# Altium schematic symbol library kmilo17pet-NSC_LDO.SchLib: 2675 symbols (part 16 of 65)
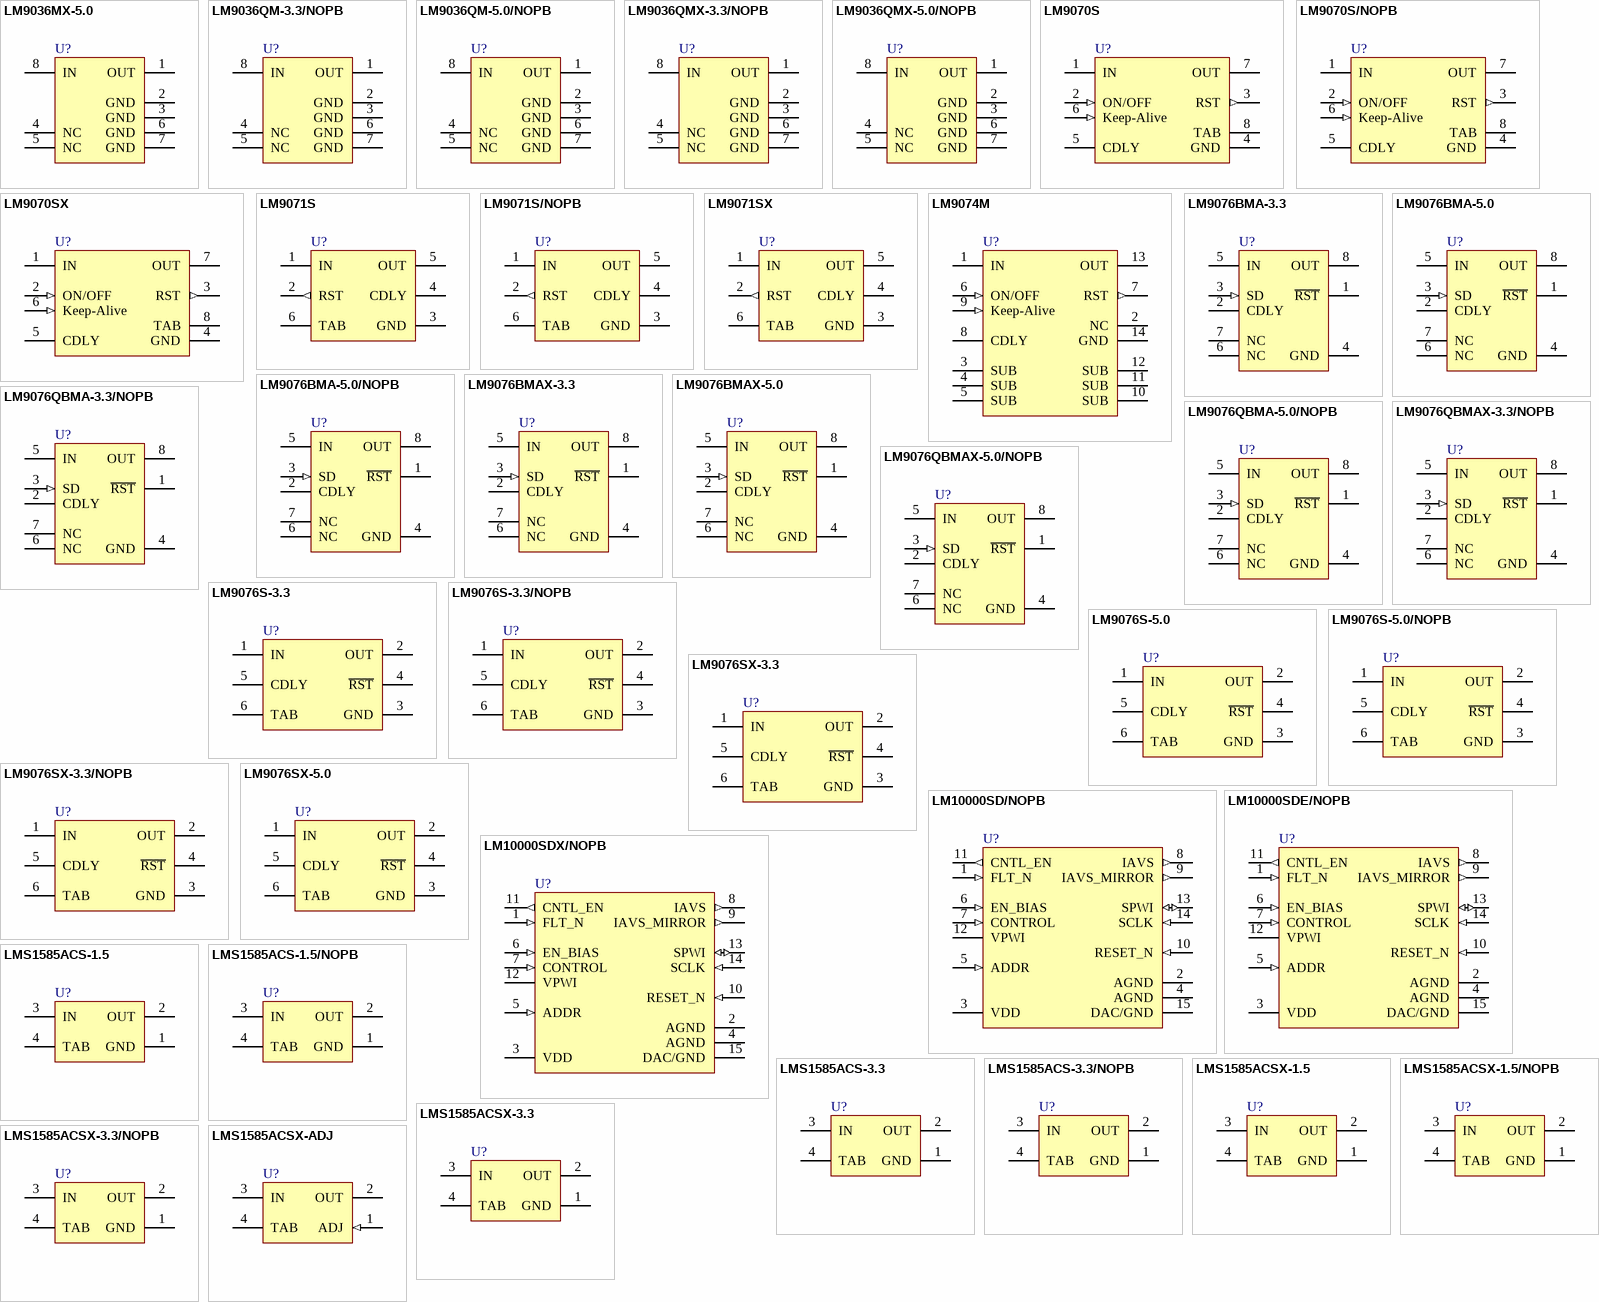
[diagram p82: symbols LM9036MX-5.0 to LMS1585ACSX-ADJ]

## LM9076QBMAX-3.3/NOPB
designator U?
150mA Ultra-Low Quiescent Current LDO Regulator with Delayed Reset Output, 3.3 Vout, Automotive Grade 1, 8-pin Narrow SOIC, 2500 Reel; PartNumber: LM9076QBMAX-3.3/NOPB; Manufacturer: National Semiconductor; PackageTopMarking: NSZXTT*9076B*QMA3.3; PowerWise: N; CompType: LDO IC; High-Reliability: Y; DatasheetVersion: Apr-2011; PackageVersion: revM, May-2009; PackageReference: M08A; PackageDescription: SOIC Narrow, 4.9 x 3.9 x 1.45mm, 8 Lead, 1.27mm Pitch; RoHS: Y; PinCount: 8; Code_JEDEC: MS-012-AA; Code_IPC: SOIC127P600-8; ComponentLink1Description: Manufacturer URL; ComponentLink1URL: http://www.national.com/; ComponentLink2Description: LM9076 Datasheet; ComponentLink2URL: http://www.national.com/ds/LM/LM9076Q.pdf; ComponentLink3Description: LM9076 Web Page; ComponentLink3URL: http://www.national.com/pf/LM/LM9076Q.html; ComponentLink4Description: M08A Package Page; ComponentLink4URL: http://www.national.com/packaging/folders/m08a.html
footprint M08A_N (SOIC, 8-Leads, Body 4.9x3.9mm, Pitch 1.27mm, IPC Medium Density)
footprint M08A_L (SOIC, 8-Leads, Body 4.9x3.9mm, Pitch 1.27mm, IPC High Density)
footprint M08A_M (SOIC, 8-Leads, Body 4.9x3.9mm, Pitch 1.27mm, IPC Low Density)
pins: 1 ~{RST} (oc), 2 CDLY, 3 SD (in), 4 GND (power), 5 IN (power), 6 NC, 7 NC, 8 OUT (power)

## LM9076QBMAX-5.0/NOPB
designator U?
150mA Ultra-Low Quiescent Current LDO Regulator with Delayed Reset Output, 5 Vout, Automotive Grade 1, 8-pin Narrow SOIC, 2500 Reel; PartNumber: LM9076QBMAX-5.0/NOPB; Manufacturer: National Semiconductor; PackageTopMarking: NSZXTT*9076B*QMA5.0; PowerWise: N; CompType: LDO IC; High-Reliability: Y; DatasheetVersion: Apr-2011; PackageVersion: revM, May-2009; PackageReference: M08A; PackageDescription: SOIC Narrow, 4.9 x 3.9 x 1.45mm, 8 Lead, 1.27mm Pitch; RoHS: Y; PinCount: 8; Code_JEDEC: MS-012-AA; Code_IPC: SOIC127P600-8; ComponentLink1Description: Manufacturer URL; ComponentLink1URL: http://www.national.com/; ComponentLink2Description: LM9076 Datasheet; ComponentLink2URL: http://www.national.com/ds/LM/LM9076Q.pdf; ComponentLink3Description: LM9076 Web Page; ComponentLink3URL: http://www.national.com/pf/LM/LM9076Q.html; ComponentLink4Description: M08A Package Page; ComponentLink4URL: http://www.national.com/packaging/folders/m08a.html
footprint M08A_N (SOIC, 8-Leads, Body 4.9x3.9mm, Pitch 1.27mm, IPC Medium Density)
footprint M08A_L (SOIC, 8-Leads, Body 4.9x3.9mm, Pitch 1.27mm, IPC High Density)
footprint M08A_M (SOIC, 8-Leads, Body 4.9x3.9mm, Pitch 1.27mm, IPC Low Density)
pins: 1 ~{RST} (oc), 2 CDLY, 3 SD (in), 4 GND (power), 5 IN (power), 6 NC, 7 NC, 8 OUT (power)

## LM9076S-3.3
designator U?
150mA Ultra-Low Quiescent Current LDO Regulator with Delayed Reset Output, 5-pin TO-263; PartNumber: LM9076S-3.3; Manufacturer: National Semiconductor; PackageTopMarking: NSUZXYTTE#*LM9076S*-3.3; PowerWise: N; CompType: LDO IC; High-Reliability: Y; DatasheetVersion: Nov-2007; PackageVersion: revD, Apr-2005; PackageReference: TS5B; PackageDescription: TO-263, Molded, .400 x .390 x .180in, 5 Lead, .067in Pitch, Surface Mount; RoHS: N; PinCount: 5; Code_JEDEC: MO-169-AB; ComponentLink1Description: Manufacturer URL; ComponentLink1URL: http://www.national.com/; ComponentLink2Description: LM9076 Datasheet; ComponentLink2URL: http://www.national.com/ds/LM/LM9076.pdf; ComponentLink3Description: LM9076 Web Page; ComponentLink3URL: http://www.national.com/pf/LM/LM9076.html; ComponentLink4Description: TS5B Package Page; ComponentLink4URL: http://www.national.com/packaging/folders/ts5b.html
footprint TS5B_N (D2-PAK, 6-Leads, Body 8.6x10.2mm, Pitch 1.7mm, Lead Span 14.1mm, IPC Medium Density)
footprint TS5B_L (D2-PAK, 6-Leads, Body 8.6x10.2mm, Pitch 1.7mm, Lead Span 14.1mm, IPC High Density)
footprint TS5B_M (D2-PAK, 6-Leads, Body 8.6x10.2mm, Pitch 1.7mm, Lead Span 14.1mm, IPC Low Density)
pins: 1 IN (power), 2 OUT (power), 3 GND (power), 4 ~{RST} (oc), 5 CDLY, 6 TAB (power)

## LM9076S-3.3/NOPB
designator U?
150mA Ultra-Low Quiescent Current LDO Regulator with Delayed Reset Output, 5-pin TO-263, Pb-Free; PartNumber: LM9076S-3.3/NOPB; Manufacturer: National Semiconductor; PackageTopMarking: NSUZXYTTE#*LM9076S*-3.3; PowerWise: N; CompType: LDO IC; High-Reliability: Y; DatasheetVersion: Nov-2007; PackageVersion: revD, Apr-2005; PackageReference: TS5B; PackageDescription: TO-263, Molded, .400 x .390 x .180in, 5 Lead, .067in Pitch, Surface Mount; RoHS: Y; PinCount: 5; Code_JEDEC: MO-169-AB; ComponentLink1Description: Manufacturer URL; ComponentLink1URL: http://www.national.com/; ComponentLink2Description: LM9076 Datasheet; ComponentLink2URL: http://www.national.com/ds/LM/LM9076.pdf; ComponentLink3Description: LM9076 Web Page; ComponentLink3URL: http://www.national.com/pf/LM/LM9076.html; ComponentLink4Description: TS5B Package Page; ComponentLink4URL: http://www.national.com/packaging/folders/ts5b.html
footprint TS5B_N (D2-PAK, 6-Leads, Body 8.6x10.2mm, Pitch 1.7mm, Lead Span 14.1mm, IPC Medium Density)
footprint TS5B_L (D2-PAK, 6-Leads, Body 8.6x10.2mm, Pitch 1.7mm, Lead Span 14.1mm, IPC High Density)
footprint TS5B_M (D2-PAK, 6-Leads, Body 8.6x10.2mm, Pitch 1.7mm, Lead Span 14.1mm, IPC Low Density)
pins: 1 IN (power), 2 OUT (power), 3 GND (power), 4 ~{RST} (oc), 5 CDLY, 6 TAB (power)

## LM9076S-5.0
designator U?
150mA Ultra-Low Quiescent Current LDO Regulator with Delayed Reset Output, 5-pin TO-263; PartNumber: LM9076S-5.0; Manufacturer: National Semiconductor; PackageTopMarking: NSUZXYTTE#*LM9076S*-5.0; PowerWise: N; CompType: LDO IC; High-Reliability: Y; DatasheetVersion: Nov-2007; PackageVersion: revD, Apr-2005; PackageReference: TS5B; PackageDescription: TO-263, Molded, .400 x .390 x .180in, 5 Lead, .067in Pitch, Surface Mount; RoHS: N; PinCount: 5; Code_JEDEC: MO-169-AB; ComponentLink1Description: Manufacturer URL; ComponentLink1URL: http://www.national.com/; ComponentLink2Description: LM9076 Datasheet; ComponentLink2URL: http://www.national.com/ds/LM/LM9076.pdf; ComponentLink3Description: LM9076 Web Page; ComponentLink3URL: http://www.national.com/pf/LM/LM9076.html; ComponentLink4Description: TS5B Package Page; ComponentLink4URL: http://www.national.com/packaging/folders/ts5b.html
footprint TS5B_N (D2-PAK, 6-Leads, Body 8.6x10.2mm, Pitch 1.7mm, Lead Span 14.1mm, IPC Medium Density)
footprint TS5B_L (D2-PAK, 6-Leads, Body 8.6x10.2mm, Pitch 1.7mm, Lead Span 14.1mm, IPC High Density)
footprint TS5B_M (D2-PAK, 6-Leads, Body 8.6x10.2mm, Pitch 1.7mm, Lead Span 14.1mm, IPC Low Density)
pins: 1 IN (power), 2 OUT (power), 3 GND (power), 4 ~{RST} (oc), 5 CDLY, 6 TAB (power)

## LM9076S-5.0/NOPB
designator U?
150mA Ultra-Low Quiescent Current LDO Regulator with Delayed Reset Output, 5-pin TO-263, Pb-Free; PartNumber: LM9076S-5.0/NOPB; Manufacturer: National Semiconductor; PackageTopMarking: NSUZXYTTE#*LM9076S*-5.0; PowerWise: N; CompType: LDO IC; High-Reliability: Y; DatasheetVersion: Nov-2007; PackageVersion: revD, Apr-2005; PackageReference: TS5B; PackageDescription: TO-263, Molded, .400 x .390 x .180in, 5 Lead, .067in Pitch, Surface Mount; RoHS: Y; PinCount: 5; Code_JEDEC: MO-169-AB; ComponentLink1Description: Manufacturer URL; ComponentLink1URL: http://www.national.com/; ComponentLink2Description: LM9076 Datasheet; ComponentLink2URL: http://www.national.com/ds/LM/LM9076.pdf; ComponentLink3Description: LM9076 Web Page; ComponentLink3URL: http://www.national.com/pf/LM/LM9076.html; ComponentLink4Description: TS5B Package Page; ComponentLink4URL: http://www.national.com/packaging/folders/ts5b.html
footprint TS5B_N (D2-PAK, 6-Leads, Body 8.6x10.2mm, Pitch 1.7mm, Lead Span 14.1mm, IPC Medium Density)
footprint TS5B_L (D2-PAK, 6-Leads, Body 8.6x10.2mm, Pitch 1.7mm, Lead Span 14.1mm, IPC High Density)
footprint TS5B_M (D2-PAK, 6-Leads, Body 8.6x10.2mm, Pitch 1.7mm, Lead Span 14.1mm, IPC Low Density)
pins: 1 IN (power), 2 OUT (power), 3 GND (power), 4 ~{RST} (oc), 5 CDLY, 6 TAB (power)

## LM9076SX-3.3
designator U?
150mA Ultra-Low Quiescent Current LDO Regulator with Delayed Reset Output, 5-pin TO-263; PartNumber: LM9076SX-3.3; Manufacturer: National Semiconductor; PackageTopMarking: NSUZXYTTE#*LM9076S*-3.3; PowerWise: N; CompType: LDO IC; High-Reliability: Y; DatasheetVersion: Nov-2007; PackageVersion: revD, Apr-2005; PackageReference: TS5B; PackageDescription: TO-263, Molded, .400 x .390 x .180in, 5 Lead, .067in Pitch, Surface Mount; RoHS: N; PinCount: 5; Code_JEDEC: MO-169-AB; ComponentLink1Description: Manufacturer URL; ComponentLink1URL: http://www.national.com/; ComponentLink2Description: LM9076 Datasheet; ComponentLink2URL: http://www.national.com/ds/LM/LM9076.pdf; ComponentLink3Description: LM9076 Web Page; ComponentLink3URL: http://www.national.com/pf/LM/LM9076.html; ComponentLink4Description: TS5B Package Page; ComponentLink4URL: http://www.national.com/packaging/folders/ts5b.html
footprint TS5B_N (D2-PAK, 6-Leads, Body 8.6x10.2mm, Pitch 1.7mm, Lead Span 14.1mm, IPC Medium Density)
footprint TS5B_L (D2-PAK, 6-Leads, Body 8.6x10.2mm, Pitch 1.7mm, Lead Span 14.1mm, IPC High Density)
footprint TS5B_M (D2-PAK, 6-Leads, Body 8.6x10.2mm, Pitch 1.7mm, Lead Span 14.1mm, IPC Low Density)
pins: 1 IN (power), 2 OUT (power), 3 GND (power), 4 ~{RST} (oc), 5 CDLY, 6 TAB (power)

## LM9076SX-3.3/NOPB
designator U?
150mA Ultra-Low Quiescent Current LDO Regulator with Delayed Reset Output, 5-pin TO-263, Pb-Free; PartNumber: LM9076SX-3.3/NOPB; Manufacturer: National Semiconductor; PackageTopMarking: NSUZXYTTE#*LM9076S*-3.3; PowerWise: N; CompType: LDO IC; High-Reliability: Y; DatasheetVersion: Nov-2007; PackageVersion: revD, Apr-2005; PackageReference: TS5B; PackageDescription: TO-263, Molded, .400 x .390 x .180in, 5 Lead, .067in Pitch, Surface Mount; RoHS: Y; PinCount: 5; Code_JEDEC: MO-169-AB; ComponentLink1Description: Manufacturer URL; ComponentLink1URL: http://www.national.com/; ComponentLink2Description: LM9076 Datasheet; ComponentLink2URL: http://www.national.com/ds/LM/LM9076.pdf; ComponentLink3Description: LM9076 Web Page; ComponentLink3URL: http://www.national.com/pf/LM/LM9076.html; ComponentLink4Description: TS5B Package Page; ComponentLink4URL: http://www.national.com/packaging/folders/ts5b.html
footprint TS5B_N (D2-PAK, 6-Leads, Body 8.6x10.2mm, Pitch 1.7mm, Lead Span 14.1mm, IPC Medium Density)
footprint TS5B_L (D2-PAK, 6-Leads, Body 8.6x10.2mm, Pitch 1.7mm, Lead Span 14.1mm, IPC High Density)
footprint TS5B_M (D2-PAK, 6-Leads, Body 8.6x10.2mm, Pitch 1.7mm, Lead Span 14.1mm, IPC Low Density)
pins: 1 IN (power), 2 OUT (power), 3 GND (power), 4 ~{RST} (oc), 5 CDLY, 6 TAB (power)

## LM9076SX-5.0
designator U?
150mA Ultra-Low Quiescent Current LDO Regulator with Delayed Reset Output, 5-pin TO-263; PartNumber: LM9076SX-5.0; Manufacturer: National Semiconductor; PackageTopMarking: NSUZXYTTE#*LM9076S*-5.0; PowerWise: N; CompType: LDO IC; High-Reliability: Y; DatasheetVersion: Nov-2007; PackageVersion: revD, Apr-2005; PackageReference: TS5B; PackageDescription: TO-263, Molded, .400 x .390 x .180in, 5 Lead, .067in Pitch, Surface Mount; RoHS: N; PinCount: 5; Code_JEDEC: MO-169-AB; ComponentLink1Description: Manufacturer URL; ComponentLink1URL: http://www.national.com/; ComponentLink2Description: LM9076 Datasheet; ComponentLink2URL: http://www.national.com/ds/LM/LM9076.pdf; ComponentLink3Description: LM9076 Web Page; ComponentLink3URL: http://www.national.com/pf/LM/LM9076.html; ComponentLink4Description: TS5B Package Page; ComponentLink4URL: http://www.national.com/packaging/folders/ts5b.html
footprint TS5B_N (D2-PAK, 6-Leads, Body 8.6x10.2mm, Pitch 1.7mm, Lead Span 14.1mm, IPC Medium Density)
footprint TS5B_L (D2-PAK, 6-Leads, Body 8.6x10.2mm, Pitch 1.7mm, Lead Span 14.1mm, IPC High Density)
footprint TS5B_M (D2-PAK, 6-Leads, Body 8.6x10.2mm, Pitch 1.7mm, Lead Span 14.1mm, IPC Low Density)
pins: 1 IN (power), 2 OUT (power), 3 GND (power), 4 ~{RST} (oc), 5 CDLY, 6 TAB (power)

## LM10000SD/NOPB
designator U?
AVS System Controller, 14 pin LLP; PartNumber: LM10000SD/NOPB; Manufacturer: National Semiconductor; PackageTopMarking: ZXYTTE#*10000SD; PowerWise: N; CompType: LDO IC; High-Reliability: Y; DatasheetVersion: Jul-2010; PackageVersion: revA, Jun-2003; PackageReference: SDA14A; PackageDescription: LLP, Plastic, Dual, 4 x 3 x 0.8mm Body, 14 Lead, 0.5mm Pitch, No Pullback; RoHS: Y; PinCount: 14; ComponentLink1Description: Manufacturer URL; ComponentLink1URL: http://www.national.com/; ComponentLink2Description: LM10000 Datasheet; ComponentLink2URL: http://www.national.com/ds/LM/LM10000.pdf; ComponentLink3Description: LM10000 Web Page; ComponentLink3URL: http://www.national.com/pf/LM/LM10000.html; ComponentLink4Description: SDA14A Package Page; ComponentLink4URL: http://www.national.com/packaging/folders/sda14a.html
footprint SDA14A (SON, 14-Leads, Body 4x3mm, Pitch 0.5mm, NSC Recommended)
pins: 1 FLT_N (in), 2 AGND (power), 3 VDD (power), 4 AGND (power), 5 ADDR (in), 6 EN_BIAS (in), 7 CONTROL (in), 8 IAVS (out), 9 IAVS_MIRROR (out), 10 RESET_N (in), 11 CNTL_EN (out), 12 VPWI (power), 13 SPWI (io), 14 SCLK (in), 15 DAC/GND (power)

## LM10000SDE/NOPB
designator U?
AVS System Controller, 14 pin LLP; PartNumber: LM10000SDE/NOPB; Manufacturer: National Semiconductor; PackageTopMarking: ZXYTTE#*10000SD; PowerWise: N; CompType: LDO IC; High-Reliability: Y; DatasheetVersion: Jul-2010; PackageVersion: revA, Jun-2003; PackageReference: SDA14A; PackageDescription: LLP, Plastic, Dual, 4 x 3 x 0.8mm Body, 14 Lead, 0.5mm Pitch, No Pullback; RoHS: Y; PinCount: 14; ComponentLink1Description: Manufacturer URL; ComponentLink1URL: http://www.national.com/; ComponentLink2Description: LM10000 Datasheet; ComponentLink2URL: http://www.national.com/ds/LM/LM10000.pdf; ComponentLink3Description: LM10000 Web Page; ComponentLink3URL: http://www.national.com/pf/LM/LM10000.html; ComponentLink4Description: SDA14A Package Page; ComponentLink4URL: http://www.national.com/packaging/folders/sda14a.html
footprint SDA14A (SON, 14-Leads, Body 4x3mm, Pitch 0.5mm, NSC Recommended)
pins: 1 FLT_N (in), 2 AGND (power), 3 VDD (power), 4 AGND (power), 5 ADDR (in), 6 EN_BIAS (in), 7 CONTROL (in), 8 IAVS (out), 9 IAVS_MIRROR (out), 10 RESET_N (in), 11 CNTL_EN (out), 12 VPWI (power), 13 SPWI (io), 14 SCLK (in), 15 DAC/GND (power)

## LM10000SDX/NOPB
designator U?
AVS System Controller, 14 pin LLP; PartNumber: LM10000SDX/NOPB; Manufacturer: National Semiconductor; PackageTopMarking: ZXYTTE#*10000SD; PowerWise: N; CompType: LDO IC; High-Reliability: Y; DatasheetVersion: Jul-2010; PackageVersion: revA, Jun-2003; PackageReference: SDA14A; PackageDescription: LLP, Plastic, Dual, 4 x 3 x 0.8mm Body, 14 Lead, 0.5mm Pitch, No Pullback; RoHS: Y; PinCount: 14; ComponentLink1Description: Manufacturer URL; ComponentLink1URL: http://www.national.com/; ComponentLink2Description: LM10000 Datasheet; ComponentLink2URL: http://www.national.com/ds/LM/LM10000.pdf; ComponentLink3Description: LM10000 Web Page; ComponentLink3URL: http://www.national.com/pf/LM/LM10000.html; ComponentLink4Description: SDA14A Package Page; ComponentLink4URL: http://www.national.com/packaging/folders/sda14a.html
footprint SDA14A (SON, 14-Leads, Body 4x3mm, Pitch 0.5mm, NSC Recommended)
pins: 1 FLT_N (in), 2 AGND (power), 3 VDD (power), 4 AGND (power), 5 ADDR (in), 6 EN_BIAS (in), 7 CONTROL (in), 8 IAVS (out), 9 IAVS_MIRROR (out), 10 RESET_N (in), 11 CNTL_EN (out), 12 VPWI (power), 13 SPWI (io), 14 SCLK (in), 15 DAC/GND (power)

## LMS1585ACS-1.5
designator U?
5A Low Dropout Fast Response Regulators, 3-pin TO-263; PartNumber: LMS1585ACS-1.5; Manufacturer: National Semiconductor; PackageTopMarking: NSUZXYTTE#*LMS1585*ACS-1.5; PowerWise: N; CompType: LDO IC; High-Reliability: Y; DatasheetVersion: Jun-2005; PackageVersion: revF, Apr-2005; PackageReference: TS3B; PackageDescription: TO-263, Molded, .400 x .390 x .180in, 3 Lead, .1in Pitch, Surface Mount; RoHS: N; PinCount: 3; Code_JEDEC: MO-169-AA; ComponentLink1Description: Manufacturer URL; ComponentLink1URL: http://www.national.com/; ComponentLink2Description: LMS1585A Datasheet; ComponentLink2URL: http://www.national.com/ds/LM/LMS1585A.pdf; ComponentLink3Description: LMS1585A Web Page; ComponentLink3URL: http://www.national.com/pf/LM/LMS1585A.html; ComponentLink4Description: TS3B Package Page; ComponentLink4URL: http://www.national.com/packaging/folders/ts3b.html
footprint TS3B_N (D2-PAK, 4-Leads, Body 8.6x10.2mm, Pitch 2.54mm, Lead Span 14.2mm, IPC Medium Density)
footprint TS3B_L (D2-PAK, 4-Leads, Body 8.6x10.2mm, Pitch 2.54mm, Lead Span 14.2mm, IPC High Density)
footprint TS3B_M (D2-PAK, 4-Leads, Body 8.6x10.2mm, Pitch 2.54mm, Lead Span 14.2mm, IPC Low Density)
pins: 1 GND (power), 2 OUT (power), 3 IN (power), 4 TAB (power)

## LMS1585ACS-1.5/NOPB
designator U?
5A Low Dropout Fast Response Regulators, 3-pin TO-263, Pb-Free; PartNumber: LMS1585ACS-1.5/NOPB; Manufacturer: National Semiconductor; PackageTopMarking: NSUZXYTTE#*LMS1585*ACS-1.5; PowerWise: N; CompType: LDO IC; High-Reliability: Y; DatasheetVersion: Jun-2005; PackageVersion: revF, Apr-2005; PackageReference: TS3B; PackageDescription: TO-263, Molded, .400 x .390 x .180in, 3 Lead, .1in Pitch, Surface Mount; RoHS: Y; PinCount: 3; Code_JEDEC: MO-169-AA; ComponentLink1Description: Manufacturer URL; ComponentLink1URL: http://www.national.com/; ComponentLink2Description: LMS1585A Datasheet; ComponentLink2URL: http://www.national.com/ds/LM/LMS1585A.pdf; ComponentLink3Description: LMS1585A Web Page; ComponentLink3URL: http://www.national.com/pf/LM/LMS1585A.html; ComponentLink4Description: TS3B Package Page; ComponentLink4URL: http://www.national.com/packaging/folders/ts3b.html
footprint TS3B_N (D2-PAK, 4-Leads, Body 8.6x10.2mm, Pitch 2.54mm, Lead Span 14.2mm, IPC Medium Density)
footprint TS3B_L (D2-PAK, 4-Leads, Body 8.6x10.2mm, Pitch 2.54mm, Lead Span 14.2mm, IPC High Density)
footprint TS3B_M (D2-PAK, 4-Leads, Body 8.6x10.2mm, Pitch 2.54mm, Lead Span 14.2mm, IPC Low Density)
pins: 1 GND (power), 2 OUT (power), 3 IN (power), 4 TAB (power)

## LMS1585ACS-3.3
designator U?
5A Low Dropout Fast Response Regulators, 3-pin TO-263; PartNumber: LMS1585ACS-3.3; Manufacturer: National Semiconductor; PackageTopMarking: NSUZXYTTE#*LMS1585*ACS-3.3; PowerWise: N; CompType: LDO IC; High-Reliability: Y; DatasheetVersion: Jun-2005; PackageVersion: revF, Apr-2005; PackageReference: TS3B; PackageDescription: TO-263, Molded, .400 x .390 x .180in, 3 Lead, .1in Pitch, Surface Mount; RoHS: N; PinCount: 3; Code_JEDEC: MO-169-AA; ComponentLink1Description: Manufacturer URL; ComponentLink1URL: http://www.national.com/; ComponentLink2Description: LMS1585A Datasheet; ComponentLink2URL: http://www.national.com/ds/LM/LMS1585A.pdf; ComponentLink3Description: LMS1585A Web Page; ComponentLink3URL: http://www.national.com/pf/LM/LMS1585A.html; ComponentLink4Description: TS3B Package Page; ComponentLink4URL: http://www.national.com/packaging/folders/ts3b.html
footprint TS3B_N (D2-PAK, 4-Leads, Body 8.6x10.2mm, Pitch 2.54mm, Lead Span 14.2mm, IPC Medium Density)
footprint TS3B_L (D2-PAK, 4-Leads, Body 8.6x10.2mm, Pitch 2.54mm, Lead Span 14.2mm, IPC High Density)
footprint TS3B_M (D2-PAK, 4-Leads, Body 8.6x10.2mm, Pitch 2.54mm, Lead Span 14.2mm, IPC Low Density)
pins: 1 GND (power), 2 OUT (power), 3 IN (power), 4 TAB (power)

## LMS1585ACS-3.3/NOPB
designator U?
5A Low Dropout Fast Response Regulators, 3-pin TO-263, Pb-Free; PartNumber: LMS1585ACS-3.3/NOPB; Manufacturer: National Semiconductor; PackageTopMarking: NSUZXYTTE#*LMS1585*ACS-3.3; PowerWise: N; CompType: LDO IC; High-Reliability: Y; DatasheetVersion: Jun-2005; PackageVersion: revF, Apr-2005; PackageReference: TS3B; PackageDescription: TO-263, Molded, .400 x .390 x .180in, 3 Lead, .1in Pitch, Surface Mount; RoHS: Y; PinCount: 3; Code_JEDEC: MO-169-AA; ComponentLink1Description: Manufacturer URL; ComponentLink1URL: http://www.national.com/; ComponentLink2Description: LMS1585A Datasheet; ComponentLink2URL: http://www.national.com/ds/LM/LMS1585A.pdf; ComponentLink3Description: LMS1585A Web Page; ComponentLink3URL: http://www.national.com/pf/LM/LMS1585A.html; ComponentLink4Description: TS3B Package Page; ComponentLink4URL: http://www.national.com/packaging/folders/ts3b.html
footprint TS3B_N (D2-PAK, 4-Leads, Body 8.6x10.2mm, Pitch 2.54mm, Lead Span 14.2mm, IPC Medium Density)
footprint TS3B_L (D2-PAK, 4-Leads, Body 8.6x10.2mm, Pitch 2.54mm, Lead Span 14.2mm, IPC High Density)
footprint TS3B_M (D2-PAK, 4-Leads, Body 8.6x10.2mm, Pitch 2.54mm, Lead Span 14.2mm, IPC Low Density)
pins: 1 GND (power), 2 OUT (power), 3 IN (power), 4 TAB (power)

## LMS1585ACSX-1.5
designator U?
5A Low Dropout Fast Response Regulators, 3-pin TO-263; PartNumber: LMS1585ACSX-1.5; Manufacturer: National Semiconductor; PackageTopMarking: NSUZXYTTE#*LMS1585*ACS-1.5; PowerWise: N; CompType: LDO IC; High-Reliability: Y; DatasheetVersion: Jun-2005; PackageVersion: revF, Apr-2005; PackageReference: TS3B; PackageDescription: TO-263, Molded, .400 x .390 x .180in, 3 Lead, .1in Pitch, Surface Mount; RoHS: N; PinCount: 3; Code_JEDEC: MO-169-AA; ComponentLink1Description: Manufacturer URL; ComponentLink1URL: http://www.national.com/; ComponentLink2Description: LMS1585A Datasheet; ComponentLink2URL: http://www.national.com/ds/LM/LMS1585A.pdf; ComponentLink3Description: LMS1585A Web Page; ComponentLink3URL: http://www.national.com/pf/LM/LMS1585A.html; ComponentLink4Description: TS3B Package Page; ComponentLink4URL: http://www.national.com/packaging/folders/ts3b.html
footprint TS3B_N (D2-PAK, 4-Leads, Body 8.6x10.2mm, Pitch 2.54mm, Lead Span 14.2mm, IPC Medium Density)
footprint TS3B_L (D2-PAK, 4-Leads, Body 8.6x10.2mm, Pitch 2.54mm, Lead Span 14.2mm, IPC High Density)
footprint TS3B_M (D2-PAK, 4-Leads, Body 8.6x10.2mm, Pitch 2.54mm, Lead Span 14.2mm, IPC Low Density)
pins: 1 GND (power), 2 OUT (power), 3 IN (power), 4 TAB (power)

## LMS1585ACSX-1.5/NOPB
designator U?
5A Low Dropout Fast Response Regulators, 3-pin TO-263, Pb-Free; PartNumber: LMS1585ACSX-1.5/NOPB; Manufacturer: National Semiconductor; PackageTopMarking: NSUZXYTTE#*LMS1585*ACS-1.5; PowerWise: N; CompType: LDO IC; High-Reliability: Y; DatasheetVersion: Jun-2005; PackageVersion: revF, Apr-2005; PackageReference: TS3B; PackageDescription: TO-263, Molded, .400 x .390 x .180in, 3 Lead, .1in Pitch, Surface Mount; RoHS: Y; PinCount: 3; Code_JEDEC: MO-169-AA; ComponentLink1Description: Manufacturer URL; ComponentLink1URL: http://www.national.com/; ComponentLink2Description: LMS1585A Datasheet; ComponentLink2URL: http://www.national.com/ds/LM/LMS1585A.pdf; ComponentLink3Description: LMS1585A Web Page; ComponentLink3URL: http://www.national.com/pf/LM/LMS1585A.html; ComponentLink4Description: TS3B Package Page; ComponentLink4URL: http://www.national.com/packaging/folders/ts3b.html
footprint TS3B_N (D2-PAK, 4-Leads, Body 8.6x10.2mm, Pitch 2.54mm, Lead Span 14.2mm, IPC Medium Density)
footprint TS3B_L (D2-PAK, 4-Leads, Body 8.6x10.2mm, Pitch 2.54mm, Lead Span 14.2mm, IPC High Density)
footprint TS3B_M (D2-PAK, 4-Leads, Body 8.6x10.2mm, Pitch 2.54mm, Lead Span 14.2mm, IPC Low Density)
pins: 1 GND (power), 2 OUT (power), 3 IN (power), 4 TAB (power)

## LMS1585ACSX-3.3
designator U?
5A Low Dropout Fast Response Regulators, 3-pin TO-263; PartNumber: LMS1585ACSX-3.3; Manufacturer: National Semiconductor; PackageTopMarking: NSUZXYTTE#*LMS1585*ACS-3.3; PowerWise: N; CompType: LDO IC; High-Reliability: Y; DatasheetVersion: Jun-2005; PackageVersion: revF, Apr-2005; PackageReference: TS3B; PackageDescription: TO-263, Molded, .400 x .390 x .180in, 3 Lead, .1in Pitch, Surface Mount; RoHS: N; PinCount: 3; Code_JEDEC: MO-169-AA; ComponentLink1Description: Manufacturer URL; ComponentLink1URL: http://www.national.com/; ComponentLink2Description: LMS1585A Datasheet; ComponentLink2URL: http://www.national.com/ds/LM/LMS1585A.pdf; ComponentLink3Description: LMS1585A Web Page; ComponentLink3URL: http://www.national.com/pf/LM/LMS1585A.html; ComponentLink4Description: TS3B Package Page; ComponentLink4URL: http://www.national.com/packaging/folders/ts3b.html
footprint TS3B_N (D2-PAK, 4-Leads, Body 8.6x10.2mm, Pitch 2.54mm, Lead Span 14.2mm, IPC Medium Density)
footprint TS3B_L (D2-PAK, 4-Leads, Body 8.6x10.2mm, Pitch 2.54mm, Lead Span 14.2mm, IPC High Density)
footprint TS3B_M (D2-PAK, 4-Leads, Body 8.6x10.2mm, Pitch 2.54mm, Lead Span 14.2mm, IPC Low Density)
pins: 1 GND (power), 2 OUT (power), 3 IN (power), 4 TAB (power)

## LMS1585ACSX-3.3/NOPB
designator U?
5A Low Dropout Fast Response Regulators, 3-pin TO-263, Pb-Free; PartNumber: LMS1585ACSX-3.3/NOPB; Manufacturer: National Semiconductor; PackageTopMarking: NSUZXYTTE#*LMS1585*ACS-3.3; PowerWise: N; CompType: LDO IC; High-Reliability: Y; DatasheetVersion: Jun-2005; PackageVersion: revF, Apr-2005; PackageReference: TS3B; PackageDescription: TO-263, Molded, .400 x .390 x .180in, 3 Lead, .1in Pitch, Surface Mount; RoHS: Y; PinCount: 3; Code_JEDEC: MO-169-AA; ComponentLink1Description: Manufacturer URL; ComponentLink1URL: http://www.national.com/; ComponentLink2Description: LMS1585A Datasheet; ComponentLink2URL: http://www.national.com/ds/LM/LMS1585A.pdf; ComponentLink3Description: LMS1585A Web Page; ComponentLink3URL: http://www.national.com/pf/LM/LMS1585A.html; ComponentLink4Description: TS3B Package Page; ComponentLink4URL: http://www.national.com/packaging/folders/ts3b.html
footprint TS3B_N (D2-PAK, 4-Leads, Body 8.6x10.2mm, Pitch 2.54mm, Lead Span 14.2mm, IPC Medium Density)
footprint TS3B_L (D2-PAK, 4-Leads, Body 8.6x10.2mm, Pitch 2.54mm, Lead Span 14.2mm, IPC High Density)
footprint TS3B_M (D2-PAK, 4-Leads, Body 8.6x10.2mm, Pitch 2.54mm, Lead Span 14.2mm, IPC Low Density)
pins: 1 GND (power), 2 OUT (power), 3 IN (power), 4 TAB (power)

## LMS1585ACSX-ADJ
designator U?
5A Low Dropout Fast Response Regulators, 3-pin TO-263; PartNumber: LMS1585ACSX-ADJ; Manufacturer: National Semiconductor; PackageTopMarking: NSUZXYTTE#*LMS1585*ACS-ADJ; PowerWise: N; CompType: LDO IC; High-Reliability: Y; DatasheetVersion: Jun-2005; PackageVersion: revF, Apr-2005; PackageReference: TS3B; PackageDescription: TO-263, Molded, .400 x .390 x .180in, 3 Lead, .1in Pitch, Surface Mount; RoHS: N; PinCount: 3; Code_JEDEC: MO-169-AA; ComponentLink1Description: Manufacturer URL; ComponentLink1URL: http://www.national.com/; ComponentLink2Description: LMS1585A Datasheet; ComponentLink2URL: http://www.national.com/ds/LM/LMS1585A.pdf; ComponentLink3Description: LMS1585A Web Page; ComponentLink3URL: http://www.national.com/pf/LM/LMS1585A.html; ComponentLink4Description: TS3B Package Page; ComponentLink4URL: http://www.national.com/packaging/folders/ts3b.html
footprint TS3B_N (D2-PAK, 4-Leads, Body 8.6x10.2mm, Pitch 2.54mm, Lead Span 14.2mm, IPC Medium Density)
footprint TS3B_L (D2-PAK, 4-Leads, Body 8.6x10.2mm, Pitch 2.54mm, Lead Span 14.2mm, IPC High Density)
footprint TS3B_M (D2-PAK, 4-Leads, Body 8.6x10.2mm, Pitch 2.54mm, Lead Span 14.2mm, IPC Low Density)
pins: 1 ADJ (in), 2 OUT (power), 3 IN (power), 4 TAB (power)

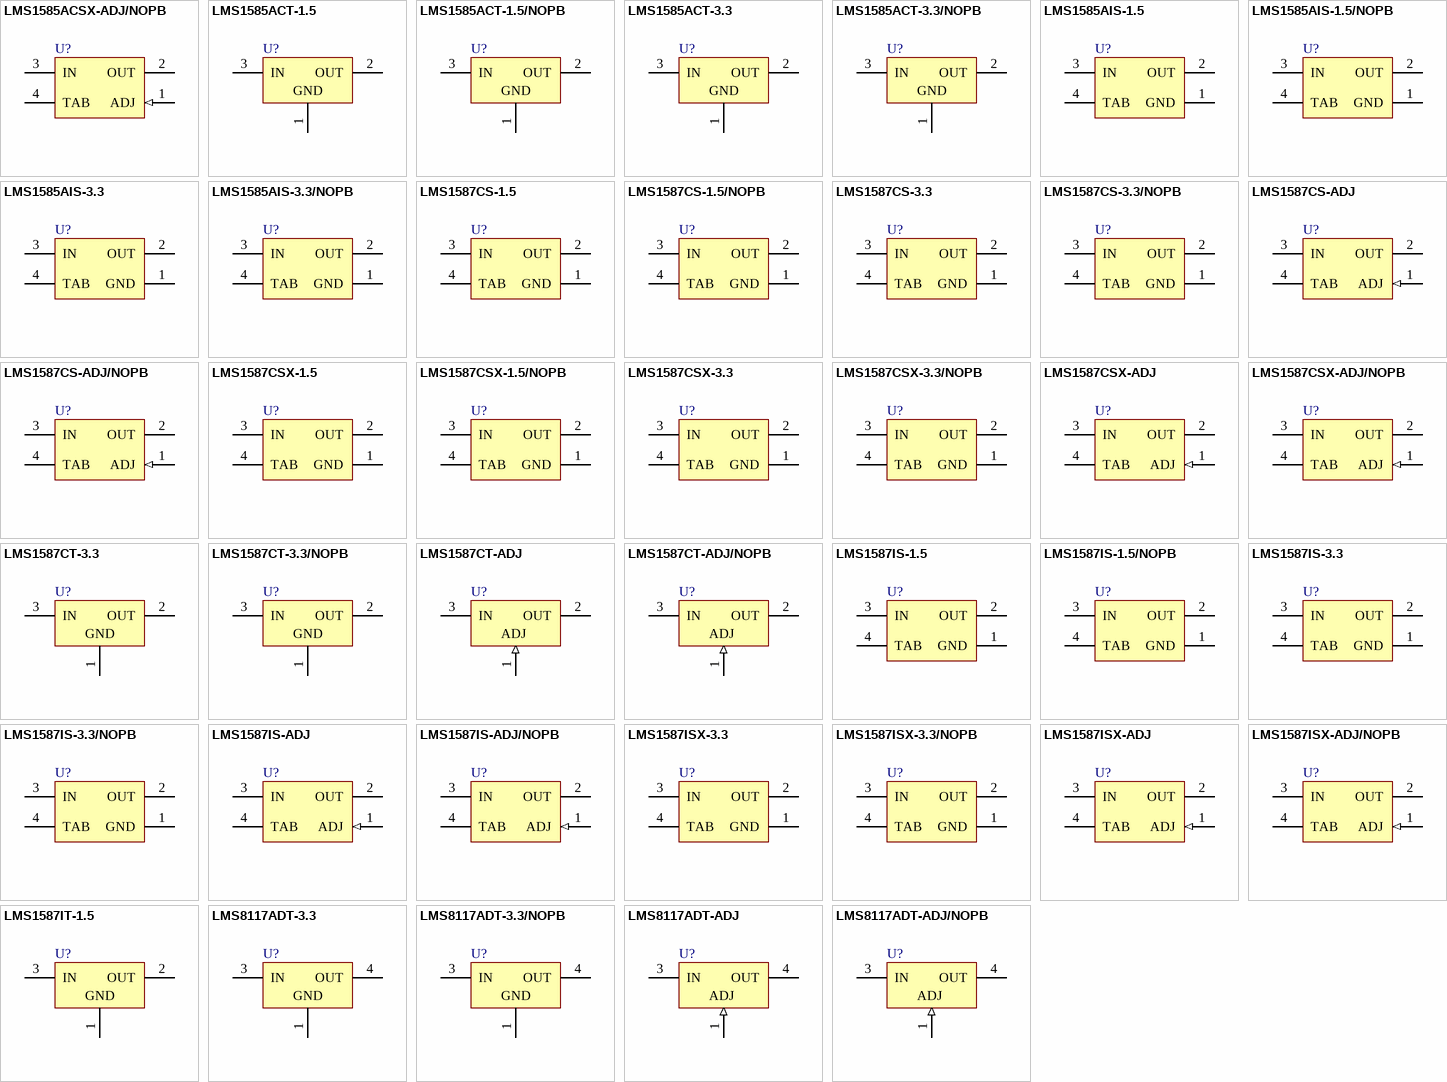
[diagram p17: symbols LMS1585ACSX-ADJ/NOPB to LMS8117ADT-ADJ/NOPB]

## LMS1585ACSX-ADJ/NOPB
designator U?
5A Low Dropout Fast Response Regulators, 3-pin TO-263, Pb-Free; PartNumber: LMS1585ACSX-ADJ/NOPB; Manufacturer: National Semiconductor; PackageTopMarking: NSUZXYTTE#*LMS1585*ACS-ADJ; PowerWise: N; CompType: LDO IC; High-Reliability: Y; DatasheetVersion: Jun-2005; PackageVersion: revF, Apr-2005; PackageReference: TS3B; PackageDescription: TO-263, Molded, .400 x .390 x .180in, 3 Lead, .1in Pitch, Surface Mount; RoHS: Y; PinCount: 3; Code_JEDEC: MO-169-AA; ComponentLink1Description: Manufacturer URL; ComponentLink1URL: http://www.national.com/; ComponentLink2Description: LMS1585A Datasheet; ComponentLink2URL: http://www.national.com/ds/LM/LMS1585A.pdf; ComponentLink3Description: LMS1585A Web Page; ComponentLink3URL: http://www.national.com/pf/LM/LMS1585A.html; ComponentLink4Description: TS3B Package Page; ComponentLink4URL: http://www.national.com/packaging/folders/ts3b.html
footprint TS3B_N (D2-PAK, 4-Leads, Body 8.6x10.2mm, Pitch 2.54mm, Lead Span 14.2mm, IPC Medium Density)
footprint TS3B_L (D2-PAK, 4-Leads, Body 8.6x10.2mm, Pitch 2.54mm, Lead Span 14.2mm, IPC High Density)
footprint TS3B_M (D2-PAK, 4-Leads, Body 8.6x10.2mm, Pitch 2.54mm, Lead Span 14.2mm, IPC Low Density)
pins: 1 ADJ (in), 2 OUT (power), 3 IN (power), 4 TAB (power)

## LMS1585ACT-1.5
designator U?
5A Low Dropout Fast Response Regulators, 3-pin TO-220; PartNumber: LMS1585ACT-1.5; Manufacturer: National Semiconductor; PackageTopMarking: NSUZXYTTE#*LMS1585ACT*1.5; PowerWise: N; CompType: LDO IC; High-Reliability: Y; DatasheetVersion: Jun-2005; PackageVersion: revL, Jan-1992; PackageReference: T03B; PackageDescription: TO-220, Molded, 3 Lead, Straight; RoHS: N; PinCount: 3; ComponentLink1Description: Manufacturer URL; ComponentLink1URL: http://www.national.com/; ComponentLink2Description: LMS1585A Datasheet; ComponentLink2URL: http://www.national.com/ds/LM/LMS1585A.pdf; ComponentLink3Description: LMS1585A Web Page; ComponentLink3URL: http://www.national.com/pf/LM/LMS1585A.html; ComponentLink4Description: T03B Package Page; ComponentLink4URL: http://www.national.com/packaging/folders/t03b.html
footprint T03B (TO, Thru-Hole, Vertical, Heatsink Mounted; 3 In-Line Leads; Pitch 2.54 mm)
pins: 1 GND (power), 2 OUT (power), 3 IN (power)

## LMS1585ACT-1.5/NOPB
designator U?
5A Low Dropout Fast Response Regulators, 3-pin TO-220, Pb-Free; PartNumber: LMS1585ACT-1.5/NOPB; Manufacturer: National Semiconductor; PackageTopMarking: NSUZXYTTE#*LMS1585ACT*1.5; PowerWise: N; CompType: LDO IC; High-Reliability: Y; DatasheetVersion: Jun-2005; PackageVersion: revL, Jan-1992; PackageReference: T03B; PackageDescription: TO-220, Molded, 3 Lead, Straight; RoHS: Y; PinCount: 3; ComponentLink1Description: Manufacturer URL; ComponentLink1URL: http://www.national.com/; ComponentLink2Description: LMS1585A Datasheet; ComponentLink2URL: http://www.national.com/ds/LM/LMS1585A.pdf; ComponentLink3Description: LMS1585A Web Page; ComponentLink3URL: http://www.national.com/pf/LM/LMS1585A.html; ComponentLink4Description: T03B Package Page; ComponentLink4URL: http://www.national.com/packaging/folders/t03b.html
footprint T03B (TO, Thru-Hole, Vertical, Heatsink Mounted; 3 In-Line Leads; Pitch 2.54 mm)
pins: 1 GND (power), 2 OUT (power), 3 IN (power)

## LMS1585ACT-3.3
designator U?
5A Low Dropout Fast Response Regulators, 3-pin TO-220; PartNumber: LMS1585ACT-3.3; Manufacturer: National Semiconductor; PackageTopMarking: NSUZXYTTE#*LMS1585*ACT-3.3; PowerWise: N; CompType: LDO IC; High-Reliability: Y; DatasheetVersion: Jun-2005; PackageVersion: revL, Jan-1992; PackageReference: T03B; PackageDescription: TO-220, Molded, 3 Lead, Straight; RoHS: N; PinCount: 3; ComponentLink1Description: Manufacturer URL; ComponentLink1URL: http://www.national.com/; ComponentLink2Description: LMS1585A Datasheet; ComponentLink2URL: http://www.national.com/ds/LM/LMS1585A.pdf; ComponentLink3Description: LMS1585A Web Page; ComponentLink3URL: http://www.national.com/pf/LM/LMS1585A.html; ComponentLink4Description: T03B Package Page; ComponentLink4URL: http://www.national.com/packaging/folders/t03b.html
footprint T03B (TO, Thru-Hole, Vertical, Heatsink Mounted; 3 In-Line Leads; Pitch 2.54 mm)
pins: 1 GND (power), 2 OUT (power), 3 IN (power)

## LMS1585ACT-3.3/NOPB
designator U?
5A Low Dropout Fast Response Regulators, 3-pin TO-220, Pb-Free; PartNumber: LMS1585ACT-3.3/NOPB; Manufacturer: National Semiconductor; PackageTopMarking: NSUZXYTTE#*LMS1585*ACT-3.3; PowerWise: N; CompType: LDO IC; High-Reliability: Y; DatasheetVersion: Jun-2005; PackageVersion: revL, Jan-1992; PackageReference: T03B; PackageDescription: TO-220, Molded, 3 Lead, Straight; RoHS: Y; PinCount: 3; ComponentLink1Description: Manufacturer URL; ComponentLink1URL: http://www.national.com/; ComponentLink2Description: LMS1585A Datasheet; ComponentLink2URL: http://www.national.com/ds/LM/LMS1585A.pdf; ComponentLink3Description: LMS1585A Web Page; ComponentLink3URL: http://www.national.com/pf/LM/LMS1585A.html; ComponentLink4Description: T03B Package Page; ComponentLink4URL: http://www.national.com/packaging/folders/t03b.html
footprint T03B (TO, Thru-Hole, Vertical, Heatsink Mounted; 3 In-Line Leads; Pitch 2.54 mm)
pins: 1 GND (power), 2 OUT (power), 3 IN (power)

## LMS1585AIS-1.5
designator U?
5A Low Dropout Fast Response Regulators, 3-pin TO-263; PartNumber: LMS1585AIS-1.5; Manufacturer: National Semiconductor; PackageTopMarking: NSUZXYTTE#*LMS1585*AIS-1.5; PowerWise: N; CompType: LDO IC; High-Reliability: Y; DatasheetVersion: Jun-2005; PackageVersion: revF, Apr-2005; PackageReference: TS3B; PackageDescription: TO-263, Molded, .400 x .390 x .180in, 3 Lead, .1in Pitch, Surface Mount; RoHS: N; PinCount: 3; Code_JEDEC: MO-169-AA; ComponentLink1Description: Manufacturer URL; ComponentLink1URL: http://www.national.com/; ComponentLink2Description: LMS1585A Datasheet; ComponentLink2URL: http://www.national.com/ds/LM/LMS1585A.pdf; ComponentLink3Description: LMS1585A Web Page; ComponentLink3URL: http://www.national.com/pf/LM/LMS1585A.html; ComponentLink4Description: TS3B Package Page; ComponentLink4URL: http://www.national.com/packaging/folders/ts3b.html
footprint TS3B_N (D2-PAK, 4-Leads, Body 8.6x10.2mm, Pitch 2.54mm, Lead Span 14.2mm, IPC Medium Density)
footprint TS3B_L (D2-PAK, 4-Leads, Body 8.6x10.2mm, Pitch 2.54mm, Lead Span 14.2mm, IPC High Density)
footprint TS3B_M (D2-PAK, 4-Leads, Body 8.6x10.2mm, Pitch 2.54mm, Lead Span 14.2mm, IPC Low Density)
pins: 1 GND (power), 2 OUT (power), 3 IN (power), 4 TAB (power)

## LMS1585AIS-1.5/NOPB
designator U?
5A Low Dropout Fast Response Regulators, 3-pin TO-263, Pb-Free; PartNumber: LMS1585AIS-1.5/NOPB; Manufacturer: National Semiconductor; PackageTopMarking: NSUZXYTTE#*LMS1585*AIS-1.5; PowerWise: N; CompType: LDO IC; High-Reliability: Y; DatasheetVersion: Jun-2005; PackageVersion: revF, Apr-2005; PackageReference: TS3B; PackageDescription: TO-263, Molded, .400 x .390 x .180in, 3 Lead, .1in Pitch, Surface Mount; RoHS: Y; PinCount: 3; Code_JEDEC: MO-169-AA; ComponentLink1Description: Manufacturer URL; ComponentLink1URL: http://www.national.com/; ComponentLink2Description: LMS1585A Datasheet; ComponentLink2URL: http://www.national.com/ds/LM/LMS1585A.pdf; ComponentLink3Description: LMS1585A Web Page; ComponentLink3URL: http://www.national.com/pf/LM/LMS1585A.html; ComponentLink4Description: TS3B Package Page; ComponentLink4URL: http://www.national.com/packaging/folders/ts3b.html
footprint TS3B_N (D2-PAK, 4-Leads, Body 8.6x10.2mm, Pitch 2.54mm, Lead Span 14.2mm, IPC Medium Density)
footprint TS3B_L (D2-PAK, 4-Leads, Body 8.6x10.2mm, Pitch 2.54mm, Lead Span 14.2mm, IPC High Density)
footprint TS3B_M (D2-PAK, 4-Leads, Body 8.6x10.2mm, Pitch 2.54mm, Lead Span 14.2mm, IPC Low Density)
pins: 1 GND (power), 2 OUT (power), 3 IN (power), 4 TAB (power)

## LMS1585AIS-3.3
designator U?
5A Low Dropout Fast Response Regulators, 3-pin TO-263; PartNumber: LMS1585AIS-3.3; Manufacturer: National Semiconductor; PackageTopMarking: NSUZXYTTE#*LMS1585*AIS-3.3; PowerWise: N; CompType: LDO IC; High-Reliability: Y; DatasheetVersion: Jun-2005; PackageVersion: revF, Apr-2005; PackageReference: TS3B; PackageDescription: TO-263, Molded, .400 x .390 x .180in, 3 Lead, .1in Pitch, Surface Mount; RoHS: N; PinCount: 3; Code_JEDEC: MO-169-AA; ComponentLink1Description: Manufacturer URL; ComponentLink1URL: http://www.national.com/; ComponentLink2Description: LMS1585A Datasheet; ComponentLink2URL: http://www.national.com/ds/LM/LMS1585A.pdf; ComponentLink3Description: LMS1585A Web Page; ComponentLink3URL: http://www.national.com/pf/LM/LMS1585A.html; ComponentLink4Description: TS3B Package Page; ComponentLink4URL: http://www.national.com/packaging/folders/ts3b.html
footprint TS3B_N (D2-PAK, 4-Leads, Body 8.6x10.2mm, Pitch 2.54mm, Lead Span 14.2mm, IPC Medium Density)
footprint TS3B_L (D2-PAK, 4-Leads, Body 8.6x10.2mm, Pitch 2.54mm, Lead Span 14.2mm, IPC High Density)
footprint TS3B_M (D2-PAK, 4-Leads, Body 8.6x10.2mm, Pitch 2.54mm, Lead Span 14.2mm, IPC Low Density)
pins: 1 GND (power), 2 OUT (power), 3 IN (power), 4 TAB (power)

## LMS1585AIS-3.3/NOPB
designator U?
5A Low Dropout Fast Response Regulators, 3-pin TO-263, Pb-Free; PartNumber: LMS1585AIS-3.3/NOPB; Manufacturer: National Semiconductor; PackageTopMarking: NSUZXYTTE#*LMS1585*AIS-3.3; PowerWise: N; CompType: LDO IC; High-Reliability: Y; DatasheetVersion: Jun-2005; PackageVersion: revF, Apr-2005; PackageReference: TS3B; PackageDescription: TO-263, Molded, .400 x .390 x .180in, 3 Lead, .1in Pitch, Surface Mount; RoHS: Y; PinCount: 3; Code_JEDEC: MO-169-AA; ComponentLink1Description: Manufacturer URL; ComponentLink1URL: http://www.national.com/; ComponentLink2Description: LMS1585A Datasheet; ComponentLink2URL: http://www.national.com/ds/LM/LMS1585A.pdf; ComponentLink3Description: LMS1585A Web Page; ComponentLink3URL: http://www.national.com/pf/LM/LMS1585A.html; ComponentLink4Description: TS3B Package Page; ComponentLink4URL: http://www.national.com/packaging/folders/ts3b.html
footprint TS3B_N (D2-PAK, 4-Leads, Body 8.6x10.2mm, Pitch 2.54mm, Lead Span 14.2mm, IPC Medium Density)
footprint TS3B_L (D2-PAK, 4-Leads, Body 8.6x10.2mm, Pitch 2.54mm, Lead Span 14.2mm, IPC High Density)
footprint TS3B_M (D2-PAK, 4-Leads, Body 8.6x10.2mm, Pitch 2.54mm, Lead Span 14.2mm, IPC Low Density)
pins: 1 GND (power), 2 OUT (power), 3 IN (power), 4 TAB (power)

## LMS1587CS-1.5
designator U?
3A Low Dropout Fast Response Regulators, 3-pin TO-263; PartNumber: LMS1587CS-1.5; Manufacturer: National Semiconductor; PackageTopMarking: NSUZXYTTE#*LMS1587*CS-1.5; PowerWise: N; CompType: LDO IC; High-Reliability: Y; DatasheetVersion: Jun-2005; PackageVersion: revF, Apr-2005; PackageReference: TS3B; PackageDescription: TO-263, Molded, .400 x .390 x .180in, 3 Lead, .1in Pitch, Surface Mount; RoHS: N; PinCount: 3; Code_JEDEC: MO-169-AA; ComponentLink1Description: Manufacturer URL; ComponentLink1URL: http://www.national.com/; ComponentLink2Description: LMS1587 Datasheet; ComponentLink2URL: http://www.national.com/ds/LM/LMS1587.pdf; ComponentLink3Description: LMS1587 Web Page; ComponentLink3URL: http://www.national.com/pf/LM/LMS1587.html; ComponentLink4Description: TS3B Package Page; ComponentLink4URL: http://www.national.com/packaging/folders/ts3b.html
footprint TS3B_N (D2-PAK, 4-Leads, Body 8.6x10.2mm, Pitch 2.54mm, Lead Span 14.2mm, IPC Medium Density)
footprint TS3B_L (D2-PAK, 4-Leads, Body 8.6x10.2mm, Pitch 2.54mm, Lead Span 14.2mm, IPC High Density)
footprint TS3B_M (D2-PAK, 4-Leads, Body 8.6x10.2mm, Pitch 2.54mm, Lead Span 14.2mm, IPC Low Density)
pins: 1 GND (power), 2 OUT (power), 3 IN (power), 4 TAB (power)

## LMS1587CS-1.5/NOPB
designator U?
3A Low Dropout Fast Response Regulators, 3-pin TO-263, Pb-Free; PartNumber: LMS1587CS-1.5/NOPB; Manufacturer: National Semiconductor; PackageTopMarking: NSUZXYTTE#*LMS1587*CS-1.5; PowerWise: N; CompType: LDO IC; High-Reliability: Y; DatasheetVersion: Jun-2005; PackageVersion: revF, Apr-2005; PackageReference: TS3B; PackageDescription: TO-263, Molded, .400 x .390 x .180in, 3 Lead, .1in Pitch, Surface Mount; RoHS: Y; PinCount: 3; Code_JEDEC: MO-169-AA; ComponentLink1Description: Manufacturer URL; ComponentLink1URL: http://www.national.com/; ComponentLink2Description: LMS1587 Datasheet; ComponentLink2URL: http://www.national.com/ds/LM/LMS1587.pdf; ComponentLink3Description: LMS1587 Web Page; ComponentLink3URL: http://www.national.com/pf/LM/LMS1587.html; ComponentLink4Description: TS3B Package Page; ComponentLink4URL: http://www.national.com/packaging/folders/ts3b.html
footprint TS3B_N (D2-PAK, 4-Leads, Body 8.6x10.2mm, Pitch 2.54mm, Lead Span 14.2mm, IPC Medium Density)
footprint TS3B_L (D2-PAK, 4-Leads, Body 8.6x10.2mm, Pitch 2.54mm, Lead Span 14.2mm, IPC High Density)
footprint TS3B_M (D2-PAK, 4-Leads, Body 8.6x10.2mm, Pitch 2.54mm, Lead Span 14.2mm, IPC Low Density)
pins: 1 GND (power), 2 OUT (power), 3 IN (power), 4 TAB (power)

## LMS1587CS-3.3
designator U?
3A Low Dropout Fast Response Regulators, 3-pin TO-263; PartNumber: LMS1587CS-3.3; Manufacturer: National Semiconductor; PackageTopMarking: NSUZXYTTE#*LMS1587*CS-3.3; PowerWise: N; CompType: LDO IC; High-Reliability: Y; DatasheetVersion: Jun-2005; PackageVersion: revF, Apr-2005; PackageReference: TS3B; PackageDescription: TO-263, Molded, .400 x .390 x .180in, 3 Lead, .1in Pitch, Surface Mount; RoHS: N; PinCount: 3; Code_JEDEC: MO-169-AA; ComponentLink1Description: Manufacturer URL; ComponentLink1URL: http://www.national.com/; ComponentLink2Description: LMS1587 Datasheet; ComponentLink2URL: http://www.national.com/ds/LM/LMS1587.pdf; ComponentLink3Description: LMS1587 Web Page; ComponentLink3URL: http://www.national.com/pf/LM/LMS1587.html; ComponentLink4Description: TS3B Package Page; ComponentLink4URL: http://www.national.com/packaging/folders/ts3b.html
footprint TS3B_N (D2-PAK, 4-Leads, Body 8.6x10.2mm, Pitch 2.54mm, Lead Span 14.2mm, IPC Medium Density)
footprint TS3B_L (D2-PAK, 4-Leads, Body 8.6x10.2mm, Pitch 2.54mm, Lead Span 14.2mm, IPC High Density)
footprint TS3B_M (D2-PAK, 4-Leads, Body 8.6x10.2mm, Pitch 2.54mm, Lead Span 14.2mm, IPC Low Density)
pins: 1 GND (power), 2 OUT (power), 3 IN (power), 4 TAB (power)

## LMS1587CS-3.3/NOPB
designator U?
3A Low Dropout Fast Response Regulators, 3-pin TO-263, Pb-Free; PartNumber: LMS1587CS-3.3/NOPB; Manufacturer: National Semiconductor; PackageTopMarking: NSUZXYTTE#*LMS1587*CS-3.3; PowerWise: N; CompType: LDO IC; High-Reliability: Y; DatasheetVersion: Jun-2005; PackageVersion: revF, Apr-2005; PackageReference: TS3B; PackageDescription: TO-263, Molded, .400 x .390 x .180in, 3 Lead, .1in Pitch, Surface Mount; RoHS: Y; PinCount: 3; Code_JEDEC: MO-169-AA; ComponentLink1Description: Manufacturer URL; ComponentLink1URL: http://www.national.com/; ComponentLink2Description: LMS1587 Datasheet; ComponentLink2URL: http://www.national.com/ds/LM/LMS1587.pdf; ComponentLink3Description: LMS1587 Web Page; ComponentLink3URL: http://www.national.com/pf/LM/LMS1587.html; ComponentLink4Description: TS3B Package Page; ComponentLink4URL: http://www.national.com/packaging/folders/ts3b.html
footprint TS3B_N (D2-PAK, 4-Leads, Body 8.6x10.2mm, Pitch 2.54mm, Lead Span 14.2mm, IPC Medium Density)
footprint TS3B_L (D2-PAK, 4-Leads, Body 8.6x10.2mm, Pitch 2.54mm, Lead Span 14.2mm, IPC High Density)
footprint TS3B_M (D2-PAK, 4-Leads, Body 8.6x10.2mm, Pitch 2.54mm, Lead Span 14.2mm, IPC Low Density)
pins: 1 GND (power), 2 OUT (power), 3 IN (power), 4 TAB (power)

## LMS1587CS-ADJ
designator U?
3A Low Dropout Fast Response Regulators, 3-pin TO-263; PartNumber: LMS1587CS-ADJ; Manufacturer: National Semiconductor; PackageTopMarking: NSUZXYTTE#*LMS1587*CS-ADJ; PowerWise: N; CompType: LDO IC; High-Reliability: Y; DatasheetVersion: Jun-2005; PackageVersion: revF, Apr-2005; PackageReference: TS3B; PackageDescription: TO-263, Molded, .400 x .390 x .180in, 3 Lead, .1in Pitch, Surface Mount; RoHS: N; PinCount: 3; Code_JEDEC: MO-169-AA; ComponentLink1Description: Manufacturer URL; ComponentLink1URL: http://www.national.com/; ComponentLink2Description: LMS1587 Datasheet; ComponentLink2URL: http://www.national.com/ds/LM/LMS1587.pdf; ComponentLink3Description: LMS1587 Web Page; ComponentLink3URL: http://www.national.com/pf/LM/LMS1587.html; ComponentLink4Description: TS3B Package Page; ComponentLink4URL: http://www.national.com/packaging/folders/ts3b.html
footprint TS3B_N (D2-PAK, 4-Leads, Body 8.6x10.2mm, Pitch 2.54mm, Lead Span 14.2mm, IPC Medium Density)
footprint TS3B_L (D2-PAK, 4-Leads, Body 8.6x10.2mm, Pitch 2.54mm, Lead Span 14.2mm, IPC High Density)
footprint TS3B_M (D2-PAK, 4-Leads, Body 8.6x10.2mm, Pitch 2.54mm, Lead Span 14.2mm, IPC Low Density)
pins: 1 ADJ (in), 2 OUT (power), 3 IN (power), 4 TAB (power)

## LMS1587CS-ADJ/NOPB
designator U?
3A Low Dropout Fast Response Regulators, 3-pin TO-263, Pb-Free; PartNumber: LMS1587CS-ADJ/NOPB; Manufacturer: National Semiconductor; PackageTopMarking: NSUZXYTTE#*LMS1587*CS-ADJ; PowerWise: N; CompType: LDO IC; High-Reliability: Y; DatasheetVersion: Jun-2005; PackageVersion: revF, Apr-2005; PackageReference: TS3B; PackageDescription: TO-263, Molded, .400 x .390 x .180in, 3 Lead, .1in Pitch, Surface Mount; RoHS: Y; PinCount: 3; Code_JEDEC: MO-169-AA; ComponentLink1Description: Manufacturer URL; ComponentLink1URL: http://www.national.com/; ComponentLink2Description: LMS1587 Datasheet; ComponentLink2URL: http://www.national.com/ds/LM/LMS1587.pdf; ComponentLink3Description: LMS1587 Web Page; ComponentLink3URL: http://www.national.com/pf/LM/LMS1587.html; ComponentLink4Description: TS3B Package Page; ComponentLink4URL: http://www.national.com/packaging/folders/ts3b.html
footprint TS3B_N (D2-PAK, 4-Leads, Body 8.6x10.2mm, Pitch 2.54mm, Lead Span 14.2mm, IPC Medium Density)
footprint TS3B_L (D2-PAK, 4-Leads, Body 8.6x10.2mm, Pitch 2.54mm, Lead Span 14.2mm, IPC High Density)
footprint TS3B_M (D2-PAK, 4-Leads, Body 8.6x10.2mm, Pitch 2.54mm, Lead Span 14.2mm, IPC Low Density)
pins: 1 ADJ (in), 2 OUT (power), 3 IN (power), 4 TAB (power)

## LMS1587CSX-1.5
designator U?
3A Low Dropout Fast Response Regulators, 3-pin TO-263; PartNumber: LMS1587CSX-1.5; Manufacturer: National Semiconductor; PackageTopMarking: NSUZXYTTE#*LMS1587*CS-1.5; PowerWise: N; CompType: LDO IC; High-Reliability: Y; DatasheetVersion: Jun-2005; PackageVersion: revF, Apr-2005; PackageReference: TS3B; PackageDescription: TO-263, Molded, .400 x .390 x .180in, 3 Lead, .1in Pitch, Surface Mount; RoHS: N; PinCount: 3; Code_JEDEC: MO-169-AA; ComponentLink1Description: Manufacturer URL; ComponentLink1URL: http://www.national.com/; ComponentLink2Description: LMS1587 Datasheet; ComponentLink2URL: http://www.national.com/ds/LM/LMS1587.pdf; ComponentLink3Description: LMS1587 Web Page; ComponentLink3URL: http://www.national.com/pf/LM/LMS1587.html; ComponentLink4Description: TS3B Package Page; ComponentLink4URL: http://www.national.com/packaging/folders/ts3b.html
footprint TS3B_N (D2-PAK, 4-Leads, Body 8.6x10.2mm, Pitch 2.54mm, Lead Span 14.2mm, IPC Medium Density)
footprint TS3B_L (D2-PAK, 4-Leads, Body 8.6x10.2mm, Pitch 2.54mm, Lead Span 14.2mm, IPC High Density)
footprint TS3B_M (D2-PAK, 4-Leads, Body 8.6x10.2mm, Pitch 2.54mm, Lead Span 14.2mm, IPC Low Density)
pins: 1 GND (power), 2 OUT (power), 3 IN (power), 4 TAB (power)

## LMS1587CSX-1.5/NOPB
designator U?
3A Low Dropout Fast Response Regulators, 3-pin TO-263, Pb-Free; PartNumber: LMS1587CSX-1.5/NOPB; Manufacturer: National Semiconductor; PackageTopMarking: NSUZXYTTE#*LMS1587*CS-1.5; PowerWise: N; CompType: LDO IC; High-Reliability: Y; DatasheetVersion: Jun-2005; PackageVersion: revF, Apr-2005; PackageReference: TS3B; PackageDescription: TO-263, Molded, .400 x .390 x .180in, 3 Lead, .1in Pitch, Surface Mount; RoHS: Y; PinCount: 3; Code_JEDEC: MO-169-AA; ComponentLink1Description: Manufacturer URL; ComponentLink1URL: http://www.national.com/; ComponentLink2Description: LMS1587 Datasheet; ComponentLink2URL: http://www.national.com/ds/LM/LMS1587.pdf; ComponentLink3Description: LMS1587 Web Page; ComponentLink3URL: http://www.national.com/pf/LM/LMS1587.html; ComponentLink4Description: TS3B Package Page; ComponentLink4URL: http://www.national.com/packaging/folders/ts3b.html
footprint TS3B_N (D2-PAK, 4-Leads, Body 8.6x10.2mm, Pitch 2.54mm, Lead Span 14.2mm, IPC Medium Density)
footprint TS3B_L (D2-PAK, 4-Leads, Body 8.6x10.2mm, Pitch 2.54mm, Lead Span 14.2mm, IPC High Density)
footprint TS3B_M (D2-PAK, 4-Leads, Body 8.6x10.2mm, Pitch 2.54mm, Lead Span 14.2mm, IPC Low Density)
pins: 1 GND (power), 2 OUT (power), 3 IN (power), 4 TAB (power)

## LMS1587CSX-3.3
designator U?
3A Low Dropout Fast Response Regulators, 3-pin TO-263; PartNumber: LMS1587CSX-3.3; Manufacturer: National Semiconductor; PackageTopMarking: NSUZXYTTE#*LMS1587*CS-3.3; PowerWise: N; CompType: LDO IC; High-Reliability: Y; DatasheetVersion: Jun-2005; PackageVersion: revF, Apr-2005; PackageReference: TS3B; PackageDescription: TO-263, Molded, .400 x .390 x .180in, 3 Lead, .1in Pitch, Surface Mount; RoHS: N; PinCount: 3; Code_JEDEC: MO-169-AA; ComponentLink1Description: Manufacturer URL; ComponentLink1URL: http://www.national.com/; ComponentLink2Description: LMS1587 Datasheet; ComponentLink2URL: http://www.national.com/ds/LM/LMS1587.pdf; ComponentLink3Description: LMS1587 Web Page; ComponentLink3URL: http://www.national.com/pf/LM/LMS1587.html; ComponentLink4Description: TS3B Package Page; ComponentLink4URL: http://www.national.com/packaging/folders/ts3b.html
footprint TS3B_N (D2-PAK, 4-Leads, Body 8.6x10.2mm, Pitch 2.54mm, Lead Span 14.2mm, IPC Medium Density)
footprint TS3B_L (D2-PAK, 4-Leads, Body 8.6x10.2mm, Pitch 2.54mm, Lead Span 14.2mm, IPC High Density)
footprint TS3B_M (D2-PAK, 4-Leads, Body 8.6x10.2mm, Pitch 2.54mm, Lead Span 14.2mm, IPC Low Density)
pins: 1 GND (power), 2 OUT (power), 3 IN (power), 4 TAB (power)